# Altium schematic symbol library Schlib1.SchLib: 12 symbols
Pins are listed as number, name and electrical type; pins without a type are passive.

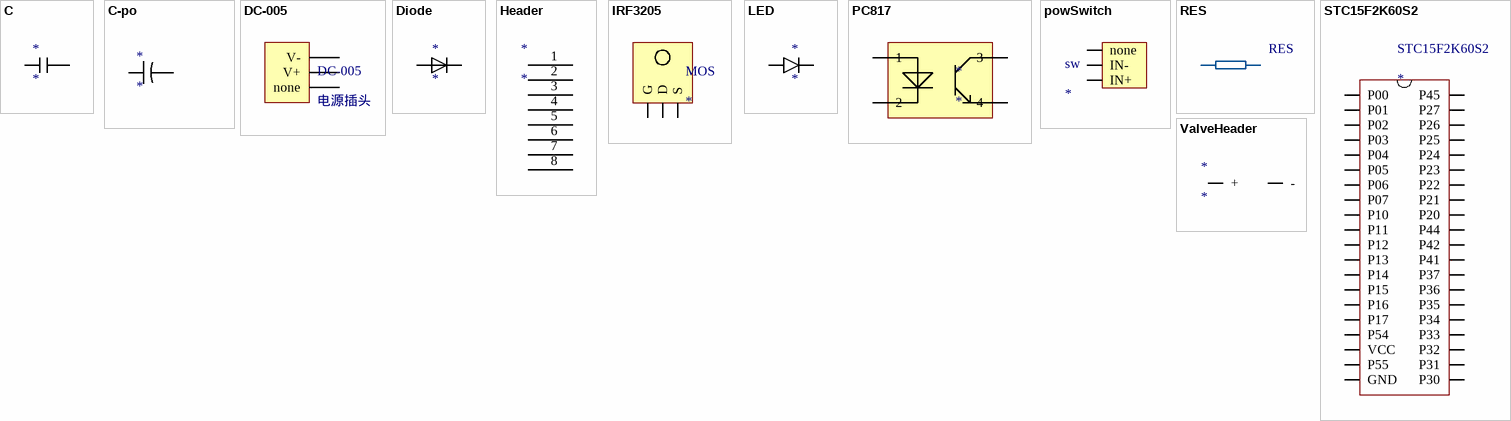
[diagram p0: symbols C to ValveHeader]

## C
designator *
footprint CAP2
pins: C1, C2

## C-po
designator *
footprint CAP1
pins: C+, C-

## DC-005
designator DC-005, comment 电源插头
footprint DC-005 (电源插头)
pins: none, V+, V-

## Diode
designator *
footprint 1N4007
pins: 1, 2

## Header
designator *
footprint Header
pins: 1, 2, 3, 4, 5, 6, 7, 8

## IRF3205
designator MOS
footprint MOS
pins: D, G, S

## LED
designator *
footprint LED
pins: 1, 2

## PC817
designator *
footprint PC817
pins: 1, 2, 3, 4

## powSwitch
designator sw
footprint powSwitch
pins: IN+, IN-, none

## RES
designator RES
footprint RES
pins: R1, R2

## STC15F2K60S2
designator STC15F2K60S2
footprint DIP40
pins: GND, P00, P01, P02, P03, P04, P05, P06, P07, P10, P11, P12, P13, P14, P15, P16, P17, P20, P21, P22, P23, P24, P25, P26, P27, P30, P31, P32, P33, P34, P35, P36, P37, P41, P42, P44, P45, P54, P55, VCC

## ValveHeader
designator *
footprint ValveHeader
pins: +, -